# EAGLE library part DLS3SS5AN23X (library untitled)
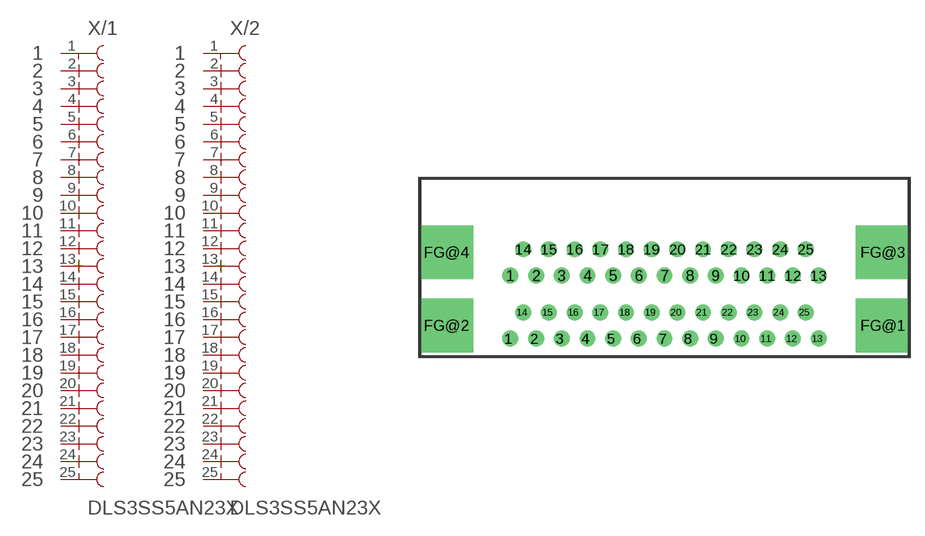
[diagram p5: symbol with the pads of DLS3SS5AN23X; footprint DLS3SS5AN23X]

Designator prefix X; gates /1=BU25 /2=BU25 BEF1=BEFESTIGUNG BEF2=BEFESTIGUNG BEF3=BEFESTIGUNG BEF4=BEFESTIGUNG

## DLS3SS5AN23X  [DLS3SS5AN23X]
1  /1:1  pas
1  /2:1  pas
2  /1:2  pas
2  /2:2  pas
3  /1:3  pas
3  /2:3  pas
4  /1:4  pas
4  /2:4  pas
5  /1:5  pas
5  /2:5  pas
6  /1:6  pas
6  /2:6  pas
7  /1:7  pas
7  /2:7  pas
8  /1:8  pas
8  /2:8  pas
9  /1:9  pas
9  /2:9  pas
10  /1:10  pas
10  /2:10  pas
11  /1:11  pas
11  /2:11  pas
12  /1:12  pas
12  /2:12  pas
13  /1:13  pas
13  /2:13  pas
14  /1:14  pas
14  /2:14  pas
15  /1:15  pas
15  /2:15  pas
16  /1:16  pas
16  /2:16  pas
17  /1:17  pas
17  /2:17  pas
18  /1:18  pas
18  /2:18  pas
19  /1:19  pas
19  /2:19  pas
20  /1:20  pas
20  /2:20  pas
21  /1:21  pas
21  /2:21  pas
22  /1:22  pas
22  /2:22  pas
23  /1:23  pas
23  /2:23  pas
24  /1:24  pas
24  /2:24  pas
25  /1:25  pas
25  /2:25  pas
FG@1  BEF1:1  pas
FG@2  BEF2:1  pas
FG@3  BEF3:1  pas
FG@4  BEF4:1  pas

## Footprint DLS3SS5AN23X (pad centres in mm)
drill 1 pad 1.72 round: 1 -16.62,-10.62; 1  -16.62,-17.42; 2 -13.85,-10.62; 2  -13.85,-17.42; 3 -11.08,-10.62; 3  -11.08,-17.42; 4 -8.31,-10.62; 4  -8.31,-17.42; 5 -5.54,-10.62; 5  -5.54,-17.42; 6 -2.77,-10.62; 6  -2.77,-17.42; 7 0,-10.62; 7  0,-17.42; 8 2.77,-10.62; 8  2.77,-17.42; 9 5.54,-10.62; 9  5.54,-17.42; 10 8.31,-10.62; 10  8.31,-17.42; 11 11.08,-10.62; 11  11.08,-17.42; 12 13.85,-10.62; 12  13.85,-17.42; 13 16.62,-10.62; 13  16.62,-17.42; 14 -15.235,-7.78; 14  -15.235,-14.58; 15 -12.465,-7.78; 15  -12.465,-14.58; 16 -9.695,-7.78; 16  -9.695,-14.58; 17 -6.925,-7.78; 17  -6.925,-14.58; 18 -4.155,-7.78; 18  -4.155,-14.58; 19 -1.385,-7.78; 19  -1.385,-14.58; 20 1.385,-7.78; 20  1.385,-14.58; 21 4.155,-7.78; 21  4.155,-14.58; 22 6.925,-7.78; 22  6.925,-14.58; 23 9.695,-7.78; 23  9.695,-14.58; 24 12.465,-7.78; 24  12.465,-14.58; 25 15.235,-7.78; 25  15.235,-14.58
drill 3.1 pad 5.8 square: FG@1 23.55,-16; FG@2 -23.55,-16; FG@3 23.55,-8.1; FG@4 -23.55,-8.1